# Altium schematic symbol library uSD_socket.SchLib: 1 symbol
Pins are listed as number, name and electrical type; pins without a type are passive.

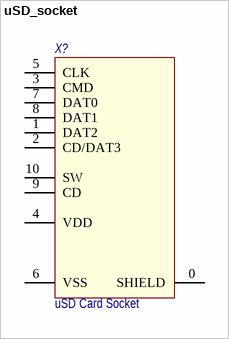
[diagram p0: symbol uSD_socket]

## uSD_socket
designator X?  (value not drawn)
uSD Card Socket; Потребление, Вт: 0.0; Назначение: uSD Card Socket; Наименование: uSD Card Socket
footprint 503182-011 (uSD Card Socket)
footprint 2201778-1 (uSD Push-In Push-Out Socket)
pins: 0 SHIELD, 1 DAT2, 2 CD/DAT3, 3 CMD, 4 VDD, 5 CLK, 6 VSS, 7 DAT0, 8 DAT1, 9 CD, 10 SW